# EAGLE library part DILB40P-223TLF (library SamacSys_Parts)
DIP Socket, Stamped and Formed Source: Datasheet <https://cdn.amphenol-cs.com/media/wysiwyg/files/drawing/10052485.pdf>
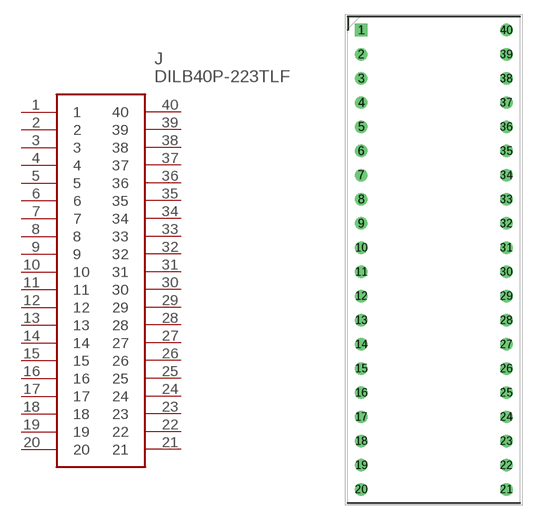
[diagram p73: symbol with the pads of DIPS1524W60P254L5080H525Q40N; footprint DIPS1524W60P254L5080H525Q40N]

Designator prefix J

## DILB40P-223TLF (DESCRIPTION: DIP Socket, Stamped and Formed; HEIGHT: 5.25mm; MANUFACTURER_NAME: Amphenol Communications Solutions; MANUFACTURER_PART_NUMBER: DILB40P-223TLF; MOUSER_PART_NUMBER: 649-DILB40P223TLF; MOUSER_PRICE-STOCK: https://www.mouser.co.uk/ProductDetail/Amphenol-FCI/DILB40P-223TLF?qs=dNsYR%2FH0PyPZ7Cx3x%252BXI2w%3D%3D)  [DIPS1524W60P254L5080H525Q40N]
1  1
2  2
3  3
4  4
5  5
6  6
7  7
8  8
9  9
10  10
11  11
12  12
13  13
14  14
15  15
16  16
17  17
18  18
19  19
20  20
21  21
22  22
23  23
24  24
25  25
26  26
27  27
28  28
29  29
30  30
31  31
32  32
33  33
34  34
35  35
36  36
37  37
38  38
39  39
40  40

## Footprint DIPS1524W60P254L5080H525Q40N (pad centres in mm)
DILB40P-223TXX
drill 0.8 pad 1.2 square: 1 0,0
drill 0.8 pad 1.2: 2 0,-2.54; 3 0,-5.08; 4 0,-7.62; 5 0,-10.16; 6 0,-12.7; 7 0,-15.24; 8 0,-17.78; 9 0,-20.32; 10 0,-22.86; 11 0,-25.4; 12 0,-27.94; 13 0,-30.48; 14 0,-33.02; 15 0,-35.56; 16 0,-38.1; 17 0,-40.64; 18 0,-43.18; 19 0,-45.72; 20 0,-48.26; 21 15.24,-48.26; 22 15.24,-45.72; 23 15.24,-43.18; 24 15.24,-40.64; 25 15.24,-38.1; 26 15.24,-35.56; 27 15.24,-33.02; 28 15.24,-30.48; 29 15.24,-27.94; 30 15.24,-25.4; 31 15.24,-22.86; 32 15.24,-20.32; 33 15.24,-17.78; 34 15.24,-15.24; 35 15.24,-12.7; 36 15.24,-10.16; 37 15.24,-7.62; 38 15.24,-5.08; 39 15.24,-2.54; 40 15.24,0